# Altium schematic symbol library SCH - MCU - NUVOTON - NUVOTON M451LG6AE.SchLib: 1 symbol
Pins are listed as number, name and electrical type; pins without a type are passive.

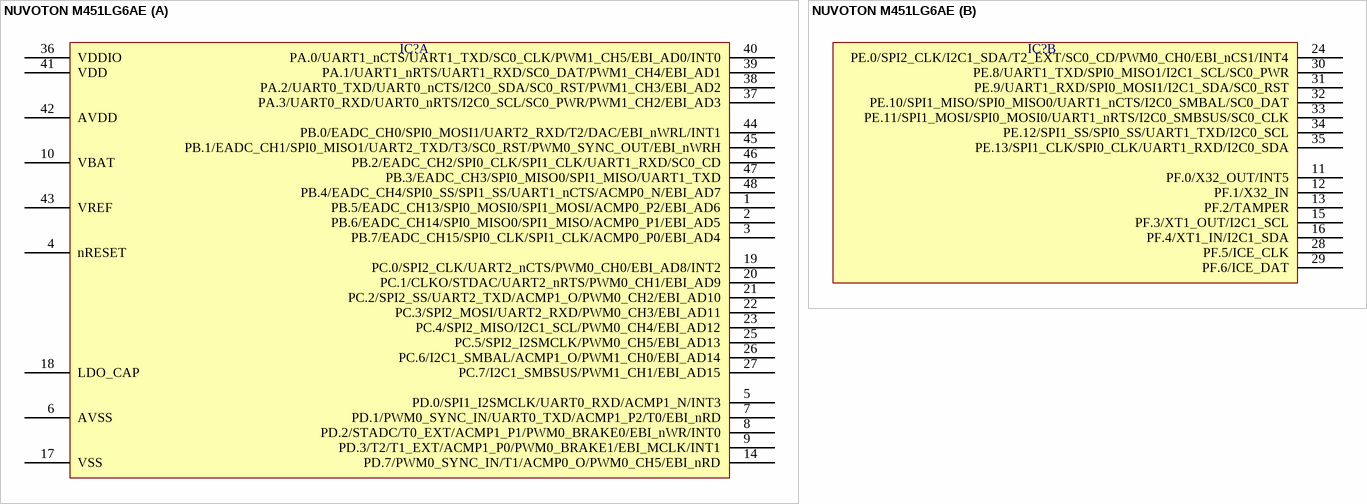
[diagram p0: symbol NUVOTON M451LG6AE]

## NUVOTON M451LG6AE
designator IC?  (value not drawn)
part A pins: 1 PB.5/EADC_CH13/SPI0_MOSI0/SPI1_MOSI/ACMP0_P2/EBI_AD6, 2 PB.6/EADC_CH14/SPI0_MISO0/SPI1_MISO/ACMP0_P1/EBI_AD5, 3 PB.7/EADC_CH15/SPI0_CLK/SPI1_CLK/ACMP0_P0/EBI_AD4, 4 nRESET, 5 PD.0/SPI1_I2SMCLK/UART0_RXD/ACMP1_N/INT3, 6 AVSS, 7 PD.1/PWM0_SYNC_IN/UART0_TXD/ACMP1_P2/T0/EBI_nRD, 8 PD.2/STADC/T0_EXT/ACMP1_P1/PWM0_BRAKE0/EBI_nWR/INT0, 9 PD.3/T2/T1_EXT/ACMP1_P0/PWM0_BRAKE1/EBI_MCLK/INT1, 10 VBAT, 14 PD.7/PWM0_SYNC_IN/T1/ACMP0_O/PWM0_CH5/EBI_nRD, 17 VSS, 18 LDO_CAP, 19 PC.0/SPI2_CLK/UART2_nCTS/PWM0_CH0/EBI_AD8/INT2, 20 PC.1/CLKO/STDAC/UART2_nRTS/PWM0_CH1/EBI_AD9, 21 PC.2/SPI2_SS/UART2_TXD/ACMP1_O/PWM0_CH2/EBI_AD10, 22 PC.3/SPI2_MOSI/UART2_RXD/PWM0_CH3/EBI_AD11, 23 PC.4/SPI2_MISO/I2C1_SCL/PWM0_CH4/EBI_AD12, 25 PC.5/SPI2_I2SMCLK/PWM0_CH5/EBI_AD13, 26 PC.6/I2C1_SMBAL/ACMP1_O/PWM1_CH0/EBI_AD14, 27 PC.7/I2C1_SMBSUS/PWM1_CH1/EBI_AD15, 36 VDDIO, 37 PA.3/UART0_RXD/UART0_nRTS/I2C0_SCL/SC0_PWR/PWM1_CH2/EBI_AD3, 38 PA.2/UART0_TXD/UART0_nCTS/I2C0_SDA/SC0_RST/PWM1_CH3/EBI_AD2, 39 PA.1/UART1_nRTS/UART1_RXD/SC0_DAT/PWM1_CH4/EBI_AD1, 40 PA.0/UART1_nCTS/UART1_TXD/SC0_CLK/PWM1_CH5/EBI_AD0/INT0, 41 VDD, 42 AVDD, 43 VREF, 44 PB.0/EADC_CH0/SPI0_MOSI1/UART2_RXD/T2/DAC/EBI_nWRL/INT1, 45 PB.1/EADC_CH1/SPI0_MISO1/UART2_TXD/T3/SC0_RST/PWM0_SYNC_OUT/EBI_nWRH, 46 PB.2/EADC_CH2/SPI0_CLK/SPI1_CLK/UART1_RXD/SC0_CD, 47 PB.3/EADC_CH3/SPI0_MISO0/SPI1_MISO/UART1_TXD, 48 PB.4/EADC_CH4/SPI0_SS/SPI1_SS/UART1_nCTS/ACMP0_N/EBI_AD7
part B pins: 11 PF.0/X32_OUT/INT5, 12 PF.1/X32_IN, 13 PF.2/TAMPER, 15 PF.3/XT1_OUT/I2C1_SCL, 16 PF.4/XT1_IN/I2C1_SDA, 24 PE.0/SPI2_CLK/I2C1_SDA/T2_EXT/SC0_CD/PWM0_CH0/EBI_nCS1/INT4, 28 PF.5/ICE_CLK, 29 PF.6/ICE_DAT, 30 PE.8/UART1_TXD/SPI0_MISO1/I2C1_SCL/SC0_PWR, 31 PE.9/UART1_RXD/SPI0_MOSI1/I2C1_SDA/SC0_RST, 32 PE.10/SPI1_MISO/SPI0_MISO0/UART1_nCTS/I2C0_SMBAL/SC0_DAT, 33 PE.11/SPI1_MOSI/SPI0_MOSI0/UART1_nRTS/I2C0_SMBSUS/SC0_CLK, 34 PE.12/SPI1_SS/SPI0_SS/UART1_TXD/I2C0_SCL, 35 PE.13/SPI1_CLK/SPI0_CLK/UART1_RXD/I2C0_SDA